# Altium footprint library 6903 5728 xx 76.PcbLib: 12 footprints
Each footprint in its own frame and in the unit in brackets; x right, y up, seen from the top. Pads: shape width x height; smd on the part's side, far side on the other; paste and mask are expansions set on the pad; w line width, h text height; cw(c..) or ccw(c..) is an arc to the next point about the centre after c.
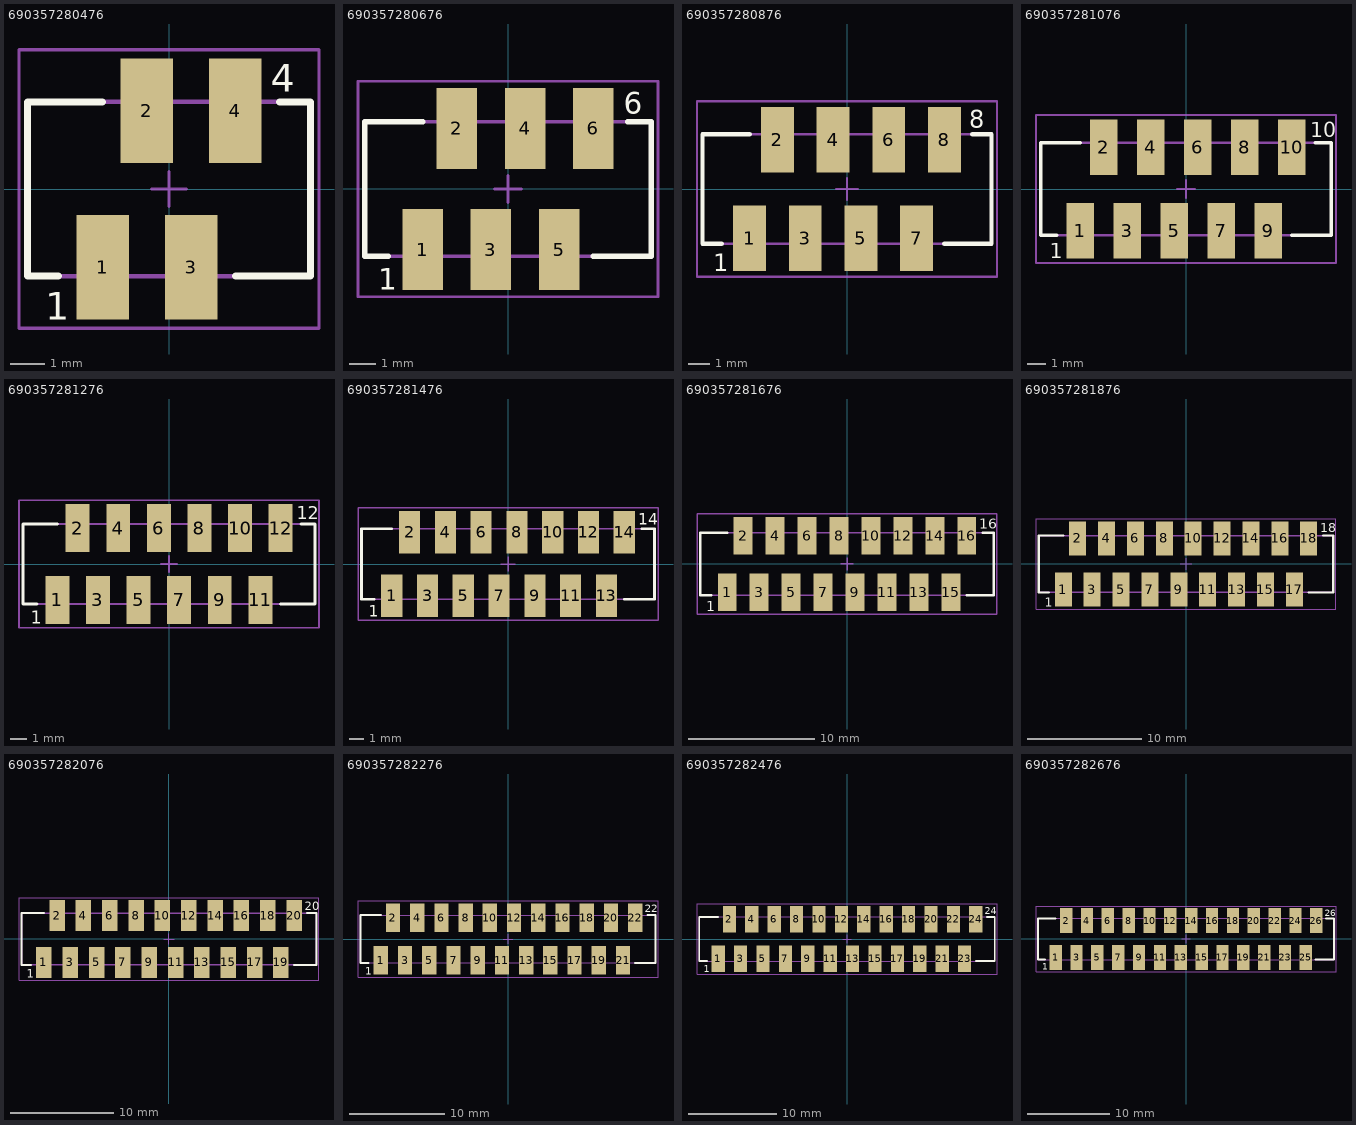
[diagram p0: the footprints below, top view; thin cyan lines are the x and y axes]

## 690357280476 [mm] "4 pins, SMT, straight"
height 4.6
pads (4):
  rect 1.5x3 smd: 1(-1.905,-2.25) 2(-0.635,2.25) 3(0.635,-2.25) 4(1.905,2.25)
Top Overlay:
  lines w0.2: -3.175,-2.5 -4.055,-2.5 -4.055,2.5 -1.905,2.5 ; 1.905,-2.5 4.055,-2.5 4.055,2.5 3.175,2.5
  text "1" at -3.556,-3.75 h0.8
  text "4" at 2.921,2.794 h0.8
Mechanical 13:
  lines w0.127: -4.055,-2.5 4.055,-2.5 4.055,2.5 -4.055,2.5 -4.055,-2.5
Mechanical 15:
  lines w0.1: -0.5,0 0.5,0 ; 0,-0.5 0,0.5 ; -4.305,-4 4.305,-4 4.305,4 -4.305,4 -4.305,-4
3D body: height 5.15, standoff 0, extent -4.055,-3.25 4.055,3.25

## 690357280676 [mm] "6 pins, SMT, straight"
height 4.6
pads (6):
  rect 1.5x3 smd: 1(-3.175,-2.25) 2(-1.905,2.25) 3(-0.635,-2.25) 4(0.635,2.25) 5(1.905,-2.25) 6(3.175,2.25)
Top Overlay:
  lines w0.2: -4.445,-2.5 -5.325,-2.5 -5.325,2.5 -3.175,2.5 ; 3.175,-2.5 5.325,-2.5 5.325,2.5 4.445,2.5
  text "6" at 4.309,2.794 h0.8
  text "1" at -4.826,-3.75 h0.8
Mechanical 13:
  lines w0.127: -5.325,-2.5 -5.325,2.5 5.325,2.5 5.325,-2.5 -5.325,-2.5
Mechanical 15:
  lines w0.1: -0.5,0 0.5,0 ; 0,-0.5 0,0.5 ; -5.575,-4 5.575,-4 5.575,4 -5.575,4 -5.575,-4
3D body: height 5.15, standoff 0, extent -5.325,-3.25 5.325,3.25

## 690357280876 [mm] "8 pins, SMT, straight"
height 4.6
pads (8):
  rect 1.5x3 smd: 1(-4.445,-2.25) 2(-3.175,2.25) 3(-1.905,-2.25) 4(-0.635,2.25) 5(0.635,-2.25) 6(1.905,2.25) 7(3.175,-2.25) 8(4.445,2.25)
Top Overlay:
  lines w0.2: -5.715,-2.5 -6.595,-2.5 -6.595,2.5 -4.445,2.5 ; 4.445,-2.5 6.595,-2.5 6.595,2.5 5.715,2.5
  text "1" at -6.096,-3.75 h0.8
  text "8" at 5.579,2.794 h0.8
Mechanical 13:
  lines w0.127: -6.595,-2.5 -6.595,2.5 6.595,2.5 6.595,-2.5 -6.595,-2.5
Mechanical 15:
  lines w0.1: -0.5,0 0.5,0 ; 0,-0.5 0,0.5 ; -6.845,-4 6.845,-4 6.845,4 -6.845,4 -6.845,-4
3D body: height 5.15, standoff 0, extent -6.595,-3.25 6.595,3.25

## 690357281076 [mm] "10 pins, SMT, straight"
height 4.6
pads (10):
  rect 1.5x3 smd: 1(-5.715,-2.25) 2(-4.445,2.25) 3(-3.175,-2.25) 4(-1.905,2.25) 5(-0.635,-2.25) 6(0.635,2.25) 7(1.905,-2.25) 8(3.175,2.25) 9(4.445,-2.25) 10(5.715,2.25)
Top Overlay:
  lines w0.2: -6.985,-2.5 -7.865,-2.5 -7.865,2.5 -5.715,2.5 ; 5.715,-2.5 7.865,-2.5 7.865,2.5 6.985,2.5
  text "1" at -7.366,-3.75 h0.8
  text "10" at 6.722,2.794 h0.8
Mechanical 13:
  lines w0.127: -7.865,-2.5 7.865,-2.5 7.865,2.5 -7.865,2.5 -7.865,-2.5
Mechanical 15:
  lines w0.1: -0.5,0 0.5,0 ; 0,-0.5 0,0.5 ; -8.115,-4 8.115,-4 8.115,4 -8.115,4 -8.115,-4
3D body: height 5.15, standoff 0, extent -7.865,-3.25 7.865,3.25

## 690357281276 [mm] "12 pins, SMT, straight"
height 4.6
pads (12):
  rect 1.5x3 smd: 1(-6.985,-2.25) 2(-5.715,2.25) 3(-4.445,-2.25) 4(-3.175,2.25) 5(-1.905,-2.25) 6(-0.635,2.25) 7(0.635,-2.25) 8(1.905,2.25) 9(3.175,-2.25) 10(4.445,2.25) 11(5.715,-2.25) 12(6.985,2.25)
Top Overlay:
  lines w0.2: -8.255,-2.5 -9.135,-2.5 -9.135,2.5 -6.985,2.5 ; 6.985,-2.5 9.135,-2.5 9.135,2.5 8.255,2.5
  text "12" at 7.992,2.794 h0.8
  text "1" at -8.636,-3.75 h0.8
Mechanical 13:
  lines w0.127: -9.135,-2.5 -9.135,2.5 9.135,2.5 9.135,-2.5 -9.135,-2.5
Mechanical 15:
  lines w0.1: -0.5,0 0.5,0 ; 0,-0.5 0,0.5 ; -9.385,-4 -9.385,4 9.385,4 9.385,-4 -9.385,-4
3D body: height 5.15, standoff 0, extent -9.135,-3.25 9.135,3.25

## 690357281476 [mm] "14 pins, SMT, straight"
height 4.6
pads (14):
  rect 1.5x3 smd: 1(-8.255,-2.25) 2(-6.985,2.25) 3(-5.715,-2.25) 4(-4.445,2.25) 5(-3.175,-2.25) 6(-1.905,2.25) 7(-0.635,-2.25) 8(0.635,2.25) 9(1.905,-2.25) 10(3.175,2.25) 11(4.445,-2.25) 12(5.715,2.25) 13(6.985,-2.25) 14(8.255,2.25)
Top Overlay:
  lines w0.2: -9.525,-2.5 -10.405,-2.5 -10.405,2.5 -8.255,2.5 ; 8.255,-2.5 10.405,-2.5 10.405,2.5 9.525,2.5
  text "14" at 9.262,2.794 h0.8
  text "1" at -9.906,-3.75 h0.8
Mechanical 13:
  lines w0.127: -10.405,-2.5 -10.405,2.5 10.405,2.5 10.405,-2.5 -10.405,-2.5
Mechanical 15:
  lines w0.1: -0.5,0 0.5,0 ; 0,-0.5 0,0.5 ; -10.655,-4 -10.655,4 10.655,4 10.655,-4 -10.655,-4
3D body: height 5.15, standoff 0, extent -10.405,-3.25 10.405,3.25

## 690357281676 [mm] "16 pins, SMT, straight"
height 4.6
pads (16):
  rect 1.5x3 smd: 1(-9.525,-2.25) 2(-8.255,2.25) 3(-6.985,-2.25) 4(-5.715,2.25) 5(-4.445,-2.25) 6(-3.175,2.25) 7(-1.905,-2.25) 8(-0.635,2.25) 9(0.635,-2.25) 10(1.905,2.25) 11(3.175,-2.25) 12(4.445,2.25) 13(5.715,-2.25) 14(6.985,2.25) 15(8.255,-2.25) 16(9.525,2.25)
Top Overlay:
  lines w0.2: -10.795,-2.5 -11.675,-2.5 -11.675,2.5 -9.525,2.5 ; 9.525,-2.5 11.675,-2.5 11.675,2.5 10.795,2.5
  text "1" at -11.176,-3.75 h0.8
  text "16" at 10.532,2.794 h0.8
Mechanical 13:
  lines w0.127: -11.675,-2.5 11.675,-2.5 11.675,2.5 -11.675,2.5 -11.675,-2.5
Mechanical 15:
  lines w0.1: -0.5,0 0.5,0 ; 0,-0.5 0,0.5 ; -11.925,-4 11.925,-4 11.925,4 -11.925,4 -11.925,-4
3D body: height 5.15, standoff 0, extent -11.675,-3.25 11.675,3.25

## 690357281876 [mm] "18 pins, SMT, straight"
height 4.6
pads (18):
  rect 1.5x3 smd: 1(-10.795,-2.25) 2(-9.525,2.25) 3(-8.255,-2.25) 4(-6.985,2.25) 5(-5.715,-2.25) 6(-4.445,2.25) 7(-3.175,-2.25) 8(-1.905,2.25) 9(-0.635,-2.25) 10(0.635,2.25) 11(1.905,-2.25) 12(3.175,2.25) 13(4.445,-2.25) 14(5.715,2.25) 15(6.985,-2.25) 16(8.255,2.25) 17(9.525,-2.25) 18(10.795,2.25)
Top Overlay:
  lines w0.2: -12.065,-2.5 -12.945,-2.5 -12.945,2.5 -10.795,2.5 ; 10.795,-2.5 12.945,-2.5 12.945,2.5 12.065,2.5
  text "18" at 11.802,2.794 h0.8
  text "1" at -12.446,-3.75 h0.8
Mechanical 13:
  lines w0.127: -12.945,-2.5 12.945,-2.5 12.945,2.5 -12.945,2.5 -12.945,-2.5
Mechanical 15:
  lines w0.1: -0.5,0 0.5,0 ; 0,-0.5 0,0.5 ; -13.195,-4 -13.195,4 13.195,4 13.195,-4 -13.195,-4
3D body: height 5.15, standoff 0, extent -12.945,-3.25 12.945,3.25

## 690357282076 [mm] "20 pins, SMT, straight"
height 4.6
pads (20):
  rect 1.5x3 smd: 1(-12.065,-2.25) 2(-10.795,2.25) 3(-9.525,-2.25) 4(-8.255,2.25) 5(-6.985,-2.25) 6(-5.715,2.25) 7(-4.445,-2.25) 8(-3.175,2.25) 9(-1.905,-2.25) 10(-0.635,2.25) 11(0.635,-2.25) 12(1.905,2.25) 13(3.175,-2.25) 14(4.445,2.25) 15(5.715,-2.25) 16(6.985,2.25) 17(8.255,-2.25) 18(9.525,2.25) 19(10.795,-2.25) 20(12.065,2.25)
Top Overlay:
  lines w0.2: -13.335,-2.5 -14.215,-2.5 -14.215,2.5 -12.065,2.5 ; 12.065,-2.5 14.215,-2.5 14.215,2.5 13.335,2.5
  text "1" at -13.716,-3.75 h0.8
  text "20" at 13.072,2.794 h0.8
Mechanical 13:
  lines w0.127: -14.215,-2.5 -14.215,2.5 14.215,2.5 14.215,-2.5 -14.215,-2.5
Mechanical 15:
  lines w0.1: -0.5,0 0.5,0 ; 0,-0.5 0,0.5 ; -14.465,-4 14.465,-4 14.465,4 -14.465,4 -14.465,-4
3D body: height 5.15, standoff 0, extent -14.215,-3.25 14.215,3.25

## 690357282276 [mm] "22 pins, SMT, straight"
height 4.6
pads (22):
  rect 1.5x3 smd: 1(-13.335,-2.25) 2(-12.065,2.25) 3(-10.795,-2.25) 4(-9.525,2.25) 5(-8.255,-2.25) 6(-6.985,2.25) 7(-5.715,-2.25) 8(-4.445,2.25) 9(-3.175,-2.25) 10(-1.905,2.25) 11(-0.635,-2.25) 12(0.635,2.25) 13(1.905,-2.25) 14(3.175,2.25) 15(4.445,-2.25) 16(5.715,2.25) 17(6.985,-2.25) 18(8.255,2.25) 19(9.525,-2.25) 20(10.795,2.25) 21(12.065,-2.25) 22(13.335,2.25)
Top Overlay:
  lines w0.2: -14.605,-2.5 -15.485,-2.5 -15.485,2.5 -13.335,2.5 ; 13.335,-2.5 15.485,-2.5 15.485,2.5 14.605,2.5
  text "22" at 14.342,2.794 h0.8
  text "1" at -14.986,-3.75 h0.8
Mechanical 13:
  lines w0.127: -15.485,-2.5 -15.485,2.5 15.485,2.5 15.485,-2.5 -15.485,-2.5
Mechanical 15:
  lines w0.1: -0.5,0 0.5,0 ; 0,-0.5 0,0.5 ; -15.735,-4 -15.735,4 15.735,4 15.735,-4 -15.735,-4
3D body: height 5.15, standoff 0, extent -15.485,-3.25 15.485,3.25

## 690357282476 [mm] "24 pins, SMT, straight"
height 4.6
pads (24):
  rect 1.5x3 smd: 1(-14.605,-2.25) 2(-13.335,2.25) 3(-12.065,-2.25) 4(-10.795,2.25) 5(-9.525,-2.25) 6(-8.255,2.25) 7(-6.985,-2.25) 8(-5.715,2.25) 9(-4.445,-2.25) 10(-3.175,2.25) 11(-1.905,-2.25) 12(-0.635,2.25) 13(0.635,-2.25) 14(1.905,2.25) 15(3.175,-2.25) 16(4.445,2.25) 17(5.715,-2.25) 18(6.985,2.25) 19(8.255,-2.25) 20(9.525,2.25) 21(10.795,-2.25) 22(12.065,2.25) 23(13.335,-2.25) 24(14.605,2.25)
Top Overlay:
  lines w0.2: -15.875,-2.5 -16.755,-2.5 -16.755,2.5 -14.605,2.5 ; 14.605,-2.5 16.755,-2.5 16.755,2.5 15.875,2.5
  text "24" at 15.612,2.794 h0.8
  text "1" at -16.256,-3.75 h0.8
Mechanical 13:
  lines w0.127: -16.755,-2.5 -16.755,2.5 16.755,2.5 16.755,-2.5 -16.755,-2.5
Mechanical 15:
  lines w0.1: -0.5,0 0.5,0 ; 0,-0.5 0,0.5 ; -17.005,-4 17.005,-4 17.005,4 -17.005,4 -17.005,-4
3D body: height 5.15, standoff 0, extent -16.755,-3.25 16.755,3.25

## 690357282676 [mm] "26 pins, SMT, straight"
height 4.6
pads (26):
  rect 1.5x3 smd: 1(-15.875,-2.25) 2(-14.605,2.25) 3(-13.335,-2.25) 4(-12.065,2.25) 5(-10.795,-2.25) 6(-9.525,2.25) 7(-8.255,-2.25) 8(-6.985,2.25) 9(-5.715,-2.25) 10(-4.445,2.25) 11(-3.175,-2.25) 12(-1.905,2.25) 13(-0.635,-2.25) 14(0.635,2.25) 15(1.905,-2.25) 16(3.175,2.25) 17(4.445,-2.25) 18(5.715,2.25) 19(6.985,-2.25) 20(8.255,2.25) 21(9.525,-2.25) 22(10.795,2.25) 23(12.065,-2.25) 24(13.335,2.25) 25(14.605,-2.25) 26(15.875,2.25)
Top Overlay:
  lines w0.2: -17.145,-2.5 -18.025,-2.5 -18.025,2.5 -15.875,2.5 ; 15.748,-2.5 18.025,-2.5 18.025,2.5 17.018,2.5
  text "1" at -17.526,-3.75 h0.8
  text "26" at 16.882,2.794 h0.8
Mechanical 13:
  lines w0.127: -18.025,-2.5 -18.025,2.5 18.025,2.5 18.025,-2.5 -18.025,-2.5
Mechanical 15:
  lines w0.1: -0.5,0 0.5,0 ; 0,-0.5 0,0.5 ; -18.275,-4 18.275,-4 18.275,4 -18.275,4 -18.275,-4
3D body: height 5.15, standoff 0, extent -18.025,-3.25 18.025,3.25